# Altium footprint library SebVLibr.PcbLib: 85 footprints (part 3 of 6)
Each footprint in its own frame and in the unit in brackets; x right, y up, seen from the top. Pads: shape width x height; smd on the part's side, far side on the other; paste and mask are expansions set on the pad; w line width, h text height; cw(c..) or ccw(c..) is an arc to the next point about the centre after c.
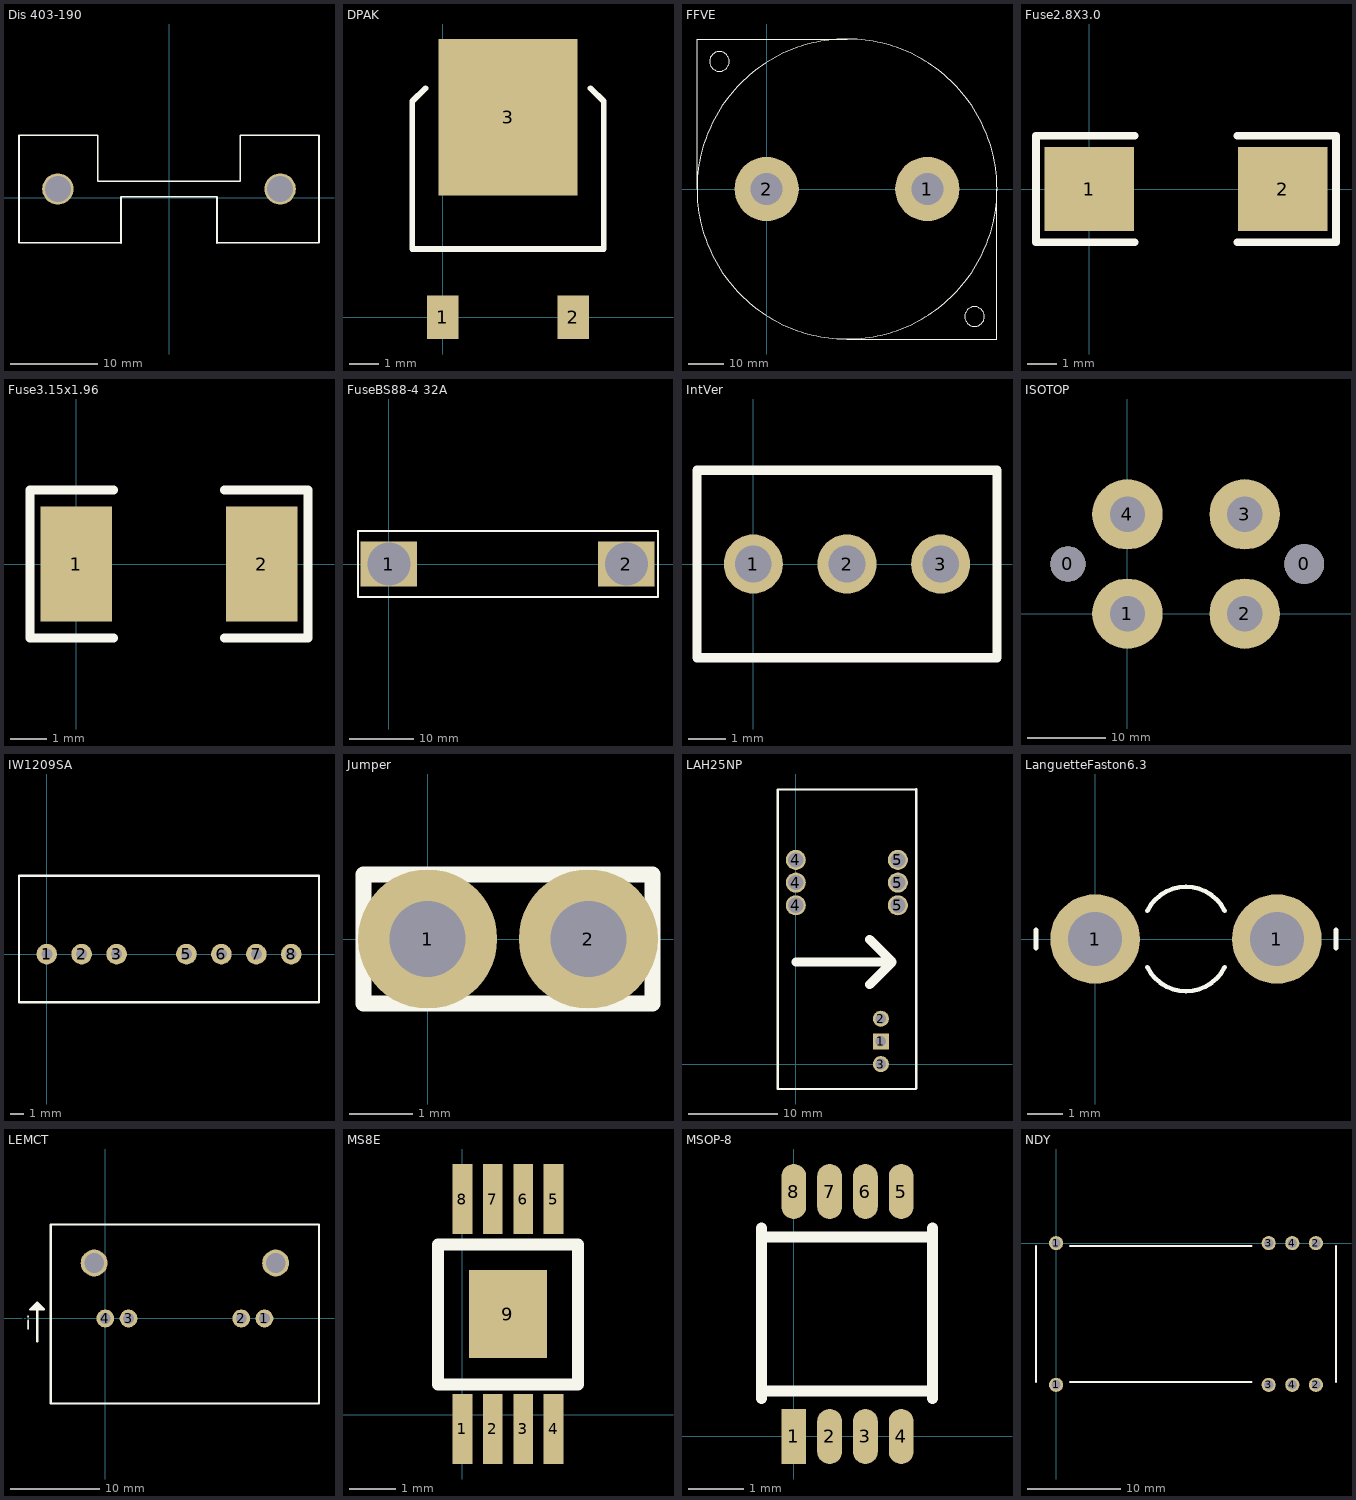
[diagram p2: the footprints below, top view; thin cyan lines are the x and y axes]

## Dis 403-190 [mm] "Dissipateur"
pads (2):
  round 3.6 hole 3: ""(-12.7,1) ""(12.7,1)
Top Overlay:
  lines w0.2: -5.5,-5.15 -17.15,-5.15 -17.15,7.15 -8.15,7.15 -8.15,1.9 8.15,1.9 8.15,7.15 17.15,7.15 17.15,-5.15 5.5,-5.15 ; -5.5,0.1 5.5,0.1
  lines w0.254: -5.5,-5.15 -5.5,0.1 ; 5.5,-5.15 5.5,0.1

## DPAK [mm]
pads (3):
  rect 1.1x1.5 smd: 1(0,0) 2(4.5,0)
  rect 4.8x5.4 smd: 3(2.25,6.9)
Top Overlay:
  lines w0.2: -0.6,7.9 -1.05,7.45 -1.05,2.35 5.55,2.35 5.55,7.45 5.1,7.9
3D body: height 2.34, standoff -0.07, extent -1.07,-0.711 5.47,9.228

## FFVE [mm]
pads (2):
  round 18 hole 9: 1(45,0) 2(0,0)
Top Overlay:
  circle w0.254: c22.5,0 r42
  circle w0.254: c-13.209,35.709 r2.75
  circle w0.254: c58.209,-35.709 r2.75
  lines w0.254: -19.5,0 -19.5,42 22.5,42 ; 22.5,-42 64.5,-42 64.5,0

## Fuse2.8X3.0 [mm]
pads (2):
  rect 3x2.8 smd: 1(0,0) 2(6.5,0)
Top Overlay:
  lines w0.254: 1.524,-1.778 -1.778,-1.778 -1.778,1.778 1.524,1.778 ; 4.976,-1.778 8.278,-1.778 8.278,1.778 4.976,1.778

## Fuse3.15x1.96 [mm]
pads (2):
  rect 1.96x3.15 smd: 1(0,0) 2(5.08,0)
Top Overlay:
  lines w0.254: 1.016,-2.032 -1.27,-2.032 -1.27,2.032 1.016,2.032 ; 4.064,-2.032 6.35,-2.032 6.35,2.032 4.064,2.032

## FuseBS88-4 32A [mm]
pads (2):
  rect 8.8x7 hole 6.7: 1(0,0) 2(37,0)
Top Overlay:
  lines w0.254: -4.826,-5.15 41.91,-5.15 41.91,5.15 -4.826,5.15 -4.826,-5.15

## IntVer [mm]
height 19.54
pads (3):
  round 1.6 hole 1: 1(0,0) 2(2.54,0) 3(5.08,0)
Top Overlay:
  lines w0.254: -1.525,-2.54 -1.525,2.54 6.605,2.54 6.605,-2.54 -1.525,-2.54

## ISOTOP [mm] "SOT-227"
pads (6):
  round 4.496 hole 4.5: 0(-7.6,6.35)
  round 5.08 hole 5.08: 0(22.6,6.35)
  round 9 hole 4.5: 1(0,0) 2(15,0) 3(15,12.7) 4(0,12.7)
Bottom Overlay:
  lines w0.254: -5.012,18.35 -5.012,18.85 ; -5,-6.15 -5,-5.65 -5,3.81 -3.46,5.35 0,5.35 5,5.35 5,-5.65 5,-6.15 ; -5,18.35 -5,8.89 -3.46,7.35 0,7.35 3,7.35 5,7.35 5,18.35 5,19.05 ; 10,-6.35 10,-5.65 10,5.35 15,5.35 18.54,5.35 20,3.89 20,-5.65 20,-6.15 ; 10,17.85 10,19.05 ; 10,18.35 10,7.35 15,7.35 18.54,7.35 20,8.81 20,18.35 20,18.85 ; 22.62,2.54 26.43,2.54 ; 22.86,10.16 26.67,10.16 ; -11.684,-6.35 26.67,-6.35 26.67,19.05 -11.684,19.05 -11.684,-6.35
3D body: height -0.42, standoff -13.3, extent -11.543,-6.248 26.557,19.152

## IW1209SA [mm] "Farnell"
height 10.6
pads (7):
  round 1.5 hole 0.8: 1(0,0) 2(2.54,0) 3(5.08,0) 5(10.16,0) 6(12.7,0) 7(15.24,0) 8(17.78,0)
Top Overlay:
  lines w0.15: -2.02,-3.5 19.8,-3.5 19.8,5.7 -2.02,5.7 -2.02,-3.5

## Jumper [mm]
pads (2):
  round 2.2 hole 1.2: 1(0,0) 2(2.54,0)
Top Overlay:
  lines w0.254: -1.016,-1.016 -1.016,1.016 3.556,1.016 3.556,-1.016 -1.016,-1.016

## LAH25NP [mm]
pads (9):
  rect 1.8x1.8 hole 1.2: 1(9.525,2.54)
  round 1.8 hole 1.2: 2(9.525,5.075) 3(9.525,0)
  round 2.24 hole 1.7: 4(0,17.78) 4(0,20.32) 4(0,22.86) 5(11.43,17.78) 5(11.43,20.32) 5(11.43,22.86)
Top Overlay:
  lines w0.254: -2.032,30.734 -2.032,-2.794 13.462,-2.794 ; -2.004,30.734 13.462,30.734 ; 13.5,-2.728 13.5,30.8
  lines w1.016: 0,11.43 10.16,11.43 ; 8.255,8.89 10.795,11.43 8.255,13.97

## LanguetteFaston6.3 [mm]
pads (2):
  round 2.5 hole 1.5: 1(0,0) 1(5.08,0)
Top Overlay:
  lines w0.127: -1.651,-0.254 -1.651,0.254 ; 1.461,-0.794 ccw(c2.54,-0.254) 3.619,-0.794 ; 1.461,0.794 cw(c2.54,0.254) 3.619,0.794 ; 6.731,-0.254 6.731,0.254
3D body: height 10, standoff -4, extent -1.46,-0.419 6.54,0.381

## LEMCT [mm] "CT01P CT02P CT04P"
height 30
pads (7):
  round 2 hole 1.2: 1(17.8,0) 2(15.2,0) 3(2.6,0) 4(0,0)
  round 1.524 on Top Solder: 6(-8.89,0)
  round 3 hole 2.2: ""(-1.25,6.2) ""(19.05,6.2)
Top Overlay:
  lines w0.254: -7.874,1.016 -8.12,1.262 ; -7.874,1.27 -7.743,1.401 -7.743,1.278 -7.678,1.212 -7.308,1.212 -7.62,1.524 -7.62,1.778 ; -7.62,-2.54 -7.62,1.778 ; -8.12,1.262 -8.12,1.278 -8.12,1.262 ; -7.62,1.778 -6.858,1.016 -7.112,1.016 -8.382,1.016 -7.62,1.778 ; -6.1,-9.5 23.9,-9.5 23.9,10.5 -6.1,10.5 -6.1,-9.5
  text "i" at -8.89,-1.27 h1.52

## MS8E [mm] "Package MSOP8"
pads (9):
  rect 0.42x1.5 smd: 1(0,-0.3) 2(0.65,-0.3) 3(1.3,-0.3) 4(1.95,-0.3) 5(1.95,4.625) 6(1.3,4.625) 7(0.65,4.625) 8(0,4.625)
  rect 1.68x1.88 smd: 9(0.975,2.163)
Top Overlay:
  lines w0.254: -0.525,0.65 2.475,0.65 2.475,3.65 -0.525,3.65 -0.525,0.65

## MSOP-8 [mm]
pads (8):
  rect 0.45x1 smd mask+0.03: 1(0,0)
  oval 0.45x1 smd mask+0.03: 2(0.65,0) 3(1.3,0) 4(1.95,0) 5(1.95,4.45) 6(1.3,4.45) 7(0.65,4.45) 8(0,4.45)
Top Overlay:
  lines w0.2: -0.584,0.691 -0.584,3.791 ; -0.584,0.825 2.516,0.825 ; -0.584,3.625 2.516,3.625 ; 2.516,0.691 2.516,3.791
3D body: height 1.09, standoff -0.01, extent -0.536,-0.311 2.464,4.689

## NDY [mil] "NDY1212C convertisseur"
pads (8):
  round 60 hole 39.37: 1(0,-600) 1(0,0) 2(1100,-600) 2(1100,0) 3(900,-600) 3(900,0) 4(1000,-600) 4(1000,0)
Top Overlay:
  lines w7.87: -85.04,-588.58 -85.04,-11.42 ; 59.06,-588.58 826.77,-588.58 ; 59.06,-11.42 826.77,-11.42 ; 1185.04,-588.58 1185.04,-11.42